# Altium schematic symbol library ICs.SchLib: 86 symbols (part 1 of 2)
Pins are listed as number, name and electrical type; pins without a type are passive.

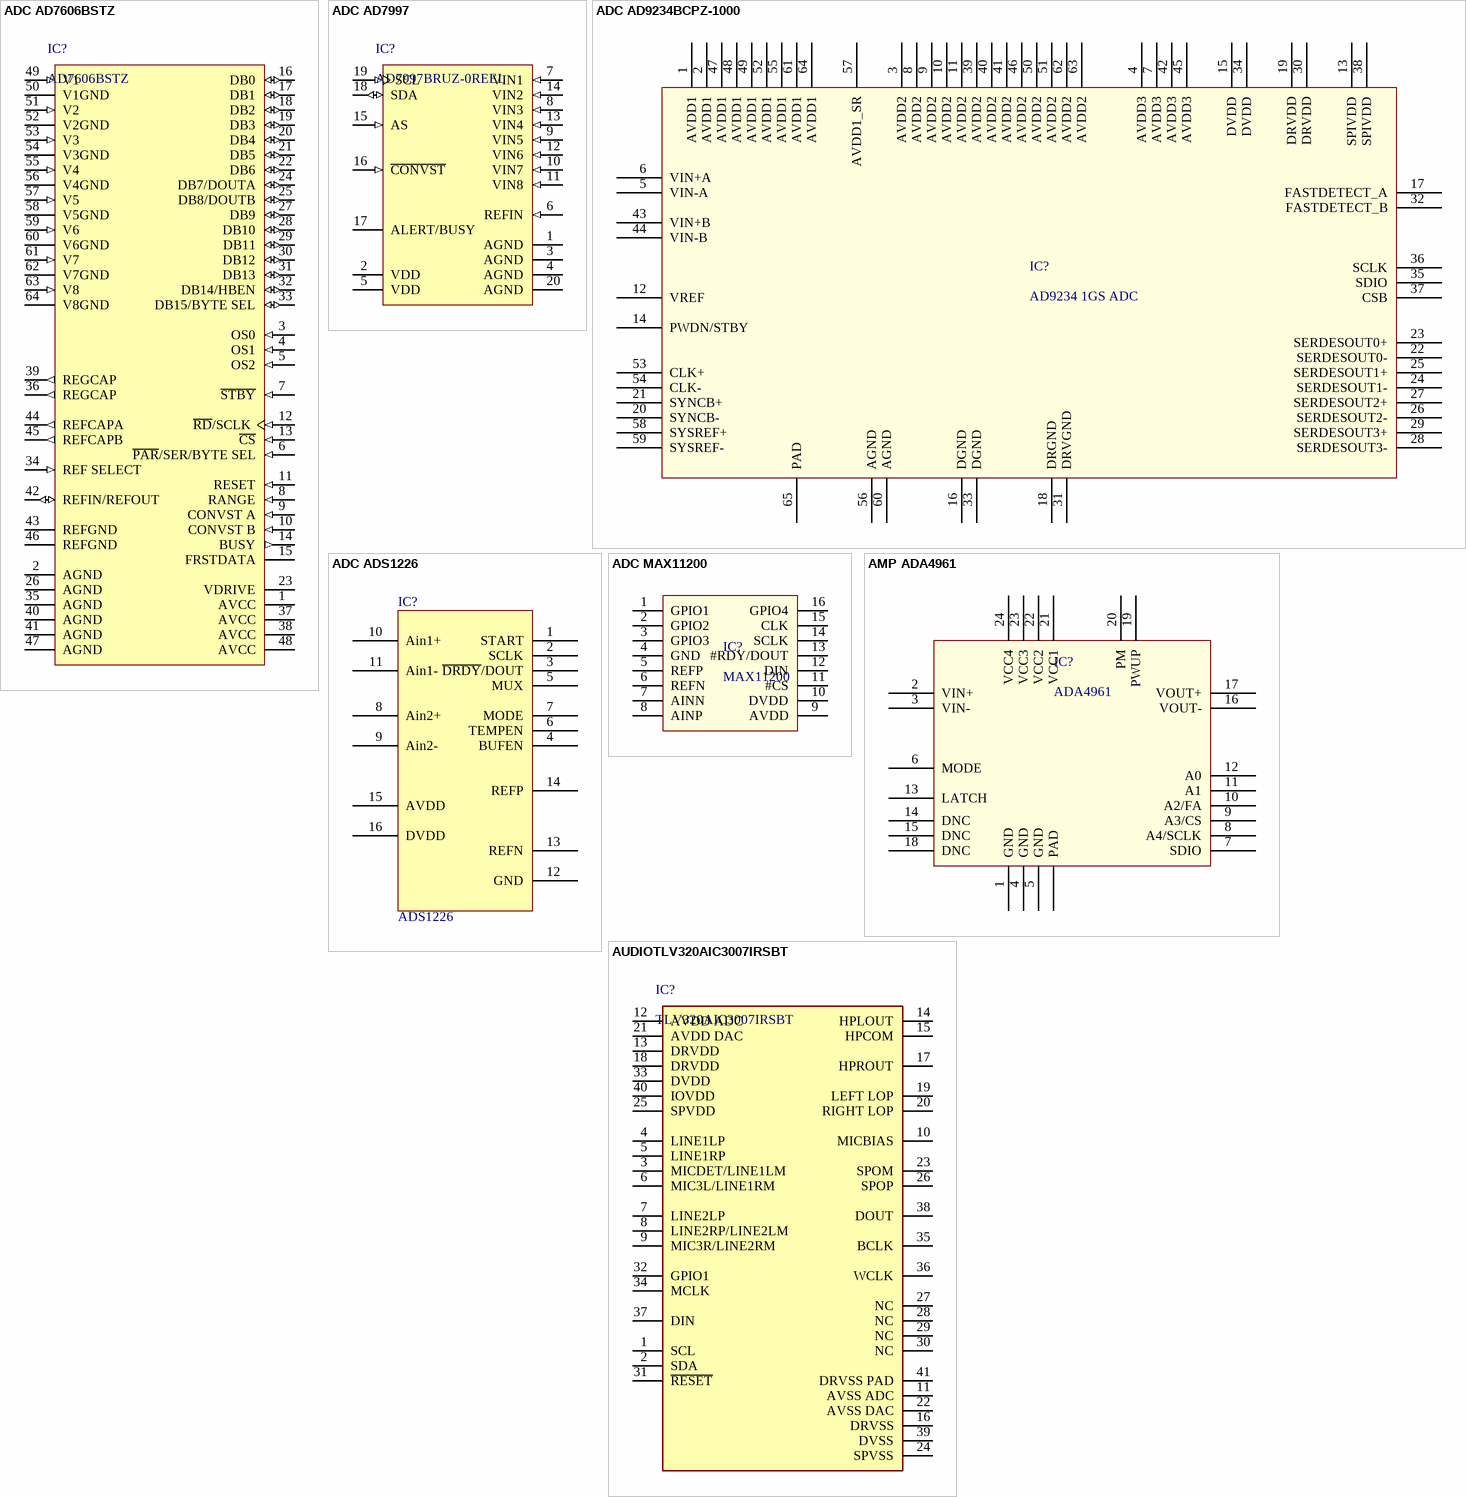
[diagram p0: symbols ADC AD7606BSTZ to AUDIOTLV320AIC3007IRSBT]

## ADC AD7606BSTZ
designator IC?, comment AD7606BSTZ
8 Channel Data Acquisition System with 16-Bit, Bipolar Input, Simultaneous Sampling Analog-to-Digital Converter with Parallel, Serial and SPI Interface, 200KSPS, -40 to +85 degC, ST-64-2, Pb-Free, Tray; Manufacturer: Analog Devices; Value: AD7606; Created by: Nils Minor; Manufacturer Part Number: AD7606BSTZ
footprint ST-64-2_L
pins: 1 AVCC (power) "Analog Supply Voltage, 4.75 V to 5.25 V. This supply voltage is applied to the internal front-end amplifiers and to the ADC core. These supply pins should be decoupled to AGND.", 2 AGND (power) "Analog Ground. These pins are the ground reference points for all analog circuitry on the AD7606. All analog input signals and external reference signals should be referred to these pins. All six of these AGND pins should (See Datasheet)", 3 OS0 (in) "Oversampling Mode Pins. Logic inputs. These inputs are used to select the oversampling ratio. OS 2 is the MSB control bit, and OS 0 is the LSB control bit. See the Digital Filter section for more details about the (See Datasheet)", 4 OS1 (in) "Oversampling Mode Pins. Logic inputs. These inputs are used to select the oversampling ratio. OS 2 is the MSB control bit, and OS 0 is the LSB control bit. See the Digital Filter section for more details about the (See Datasheet)", 5 OS2 (in) "Oversampling Mode Pins. Logic inputs. These inputs are used to select the oversampling ratio. OS 2 is the MSB control bit, and OS 0 is the LSB control bit. See the Digital Filter section for more details about the (See Datasheet)", 6 ~{PAR}/SER/BYTE SEL (in) "Parallel/Serial/Byte Interface Selection Input. Logic input. If this pin is tied to a logic low, the parallel interface is selected. If this pin is tied to a logic high,the serial interface is selected. Parallel byte (See Datasheet)", 7 ~{STBY} (in) "Standby Mode Input. This pin is used to place the AD7606/AD7606-6/AD7606-4 into one of two power-down modes: standby mode or shutdown mode. The power-down mode entered depends on the state of the RANGE pin, as shown in Table (See Datasheet)", 8 RANGE (in) "Analog Input Range Selection. Logic input. The polarity on this pin deter-mines the input range of the analog input channels. If this pin is tied to a logic high, the analog input range is +/-10 V for all channels. If this (See Datasheet)", 9 CONVST A (in) "Conversion Start Input A. Logic inputs. These logic inputs are used to initiate conversions on the analog input channels. For simultaneous sampling of all input channels, CONVST A and CONVST B can be shorted together, and a (See Datasheet)", 10 CONVST B (in) "Conversion Start Input B. Logic inputs. These logic inputs are used to initiate conversions on the analog input channels. For simultaneous sampling of all input channels, CONVST A and CONVST B can be shorted together, and a (See Datasheet)", 11 RESET (in) "Reset Input. When set to logic high, the rising edge of RESET resets the AD7606/AD7606-6/AD7606-4. The part should receive a RESET pulse after power-up. The RESET high pulse should typically be 50 ns wide. If a RESET pulse (See Datasheet)", 12 ~{RD}/SCLK (in) "Parallel Data Read Control Input When the Parallel Interface Is Selected (R\D\)/ Serial Clock Input When the Serial Interface Is Selected (SCLK). When both C\S\ and R\D\ are logic low in parallel mode, the output bus is (See Datasheet)", 13 ~{CS} (in) "Chip Select. This active low logic input frames the data transfer. When both C\S\ and R\D\ are logic low in parallel mode, the DB[15:0] output bus is enabled and the conversion result is output on the parallel data bus lines.(See Datasheet)", 14 BUSY (out) "Busy Output. This pin transitions to a logic high after both CONVST A and CONVST B rising edges and indicates that the conversion process has started. The BUSY output remains high until the conversion process for all (See Datasheet)", 15 FRSTDATA (hiz) "Digital Output. The FRSTDATA output signal indicates when the first channel, V1, is being read back on the parallel, byte, or serial interface. When the C\S\ input is high, the FRSTDATA output pin is in three-state. The (See Datasheet)", 16 DB0 (io) "Parallel Output Data Bit, DB6 to DB0. When P\A\R\/SER/BYTE SEL = 0, this pin acts as three-state parallel digital input/output pin. When C\S\ and R\D\ are low, these pins are used to output DB6 to DB0 of the conversion (See Datasheet)", 17 DB1 (io) "Parallel Output Data Bit, DB6 to DB0. When P\A\R\/SER/BYTE SEL = 0, this pin acts as three-state parallel digital input/output pin. When C\S\ and R\D\ are low, these pins are used to output DB6 to DB0 of the conversion (See Datasheet)", 18 DB2 (io) "Parallel Output Data Bit, DB6 to DB0. When P\A\R\/SER/BYTE SEL = 0, this pin acts as three-state parallel digital input/output pin. When C\S\ and R\D\ are low, these pins are used to output DB6 to DB0 of the conversion (See Datasheet)", 19 DB3 (io) "Parallel Output Data Bit, DB6 to DB0. When P\A\R\/SER/BYTE SEL = 0, this pin acts as three-state parallel digital input/output pin. When C\S\ and R\D\ are low, these pins are used to output DB6 to DB0 of the conversion (See Datasheet)", 20 DB4 (io) "Parallel Output Data Bit, DB6 to DB0. When P\A\R\/SER/BYTE SEL = 0, this pin acts as three-state parallel digital input/output pin. When C\S\ and R\D\ are low, these pins are used to output DB6 to DB0 of the conversion (See Datasheet)", 21 DB5 (io) "Parallel Output Data Bit, DB6 to DB0. When P\A\R\/SER/BYTE SEL = 0, this pin acts as three-state parallel digital input/output pin. When C\S\ and R\D\ are low, these pins are used to output DB6 to DB0 of the conversion (See Datasheet)", 22 DB6 (io) "Parallel Output Data Bit, DB6 to DB0. When P\A\R\/SER/BYTE SEL = 0, this pin acts as three-state parallel digital input/output pin. When C\S\ and R\D\ are low, these pins are used to output DB6 to DB0 of the conversion (See Datasheet)", 23 VDRIVE (power) "Logic Power Supply Input. The voltage (2.3 V to 5.25 V) supplied at this pin determines the operating voltage of the interface. This pin is nominally at the same supply as the supply of the host interface (that is, DSP and (See Datasheet)", 24 DB7/DOUTA (io) "Parallel Output Data Bit 7 (DB7)/Serial Interface Data Output Pin (DoutA). When P\A\R\/SER/BYTE SEL = 0, this pin acts as a three-state parallel digital input/output pin. When C\S\ and R\D\ are low, this pin is used to (See Datasheet)", 25 DB8/DOUTB (io) "Parallel Output Data Bit 8 (DB8)/Serial Interface Data Output Pin (DoutB).  When P\A\R\/SER/BYTE SEL = 0, this pin acts as a three-state parallel digital input/output pin. When C\S\ and R\D\ are low, this pin is used to (See Datasheet)", 26 AGND (power) "Analog Ground. These pins are the ground reference points for all analog circuitry on the AD7606. All analog input signals and external reference signals should be referred to these pins. All six of these AGND pins should (See Datasheet)", 27 DB9 (io) "Parallel Output Data Bit, DB13 to DB9. When P\A\R\/SER/BYTE SEL = 0, this pin acts as three-state parallel digital input/output pin. When C\S\ and R\D\ are low, these pins are used to output DB13 to DB9 of the conversion (See Datasheet)", 28 DB10 (io) "Parallel Output Data Bit, DB13 to DB9. When P\A\R\/SER/BYTE SEL = 0, this pin acts as three-state parallel digital input/output pin. When C\S\ and R\D\ are low, these pins are used to output DB13 to DB9 of the conversion (See Datasheet)", 29 DB11 (io) "Parallel Output Data Bit, DB13 to DB9. When P\A\R\/SER/BYTE SEL = 0, this pin acts as three-state parallel digital input/output pin. When C\S\ and R\D\ are low, these pins are used to output DB13 to DB9 of the conversion (See Datasheet)", 30 DB12 (io) "Parallel Output Data Bit, DB13 to DB9. When P\A\R\/SER/BYTE SEL = 0, this pin acts as three-state parallel digital input/output pin. When C\S\ and R\D\ are low, these pins are used to output DB13 to DB9 of the conversion (See Datasheet)", 31 DB13 (io) "Parallel Output Data Bit, DB13 to DB9. When P\A\R\/SER/BYTE SEL = 0, this pin acts as three-state parallel digital input/output pin. When C\S\ and R\D\ are low, these pins are used to output DB13 to DB9 of the conversion (See Datasheet)", 32 DB14/HBEN (io) "Parallel Output Data Bit 14 (DB14)/High Byte Enable (HBEN). When P\A\R\/ SER/BYTE SEL = 0, this pin acts as a three-state parallel digital output pin. When C\S\ and R\D\ are low, this pin is used to output DB14 of the (See Datasheet)", 33 DB15/BYTE SEL (io) "Parallel Output Data Bit 15 (DB15)/Parallel Byte Mode Select (BYTE SEL).  When P\A\R\/SER/BYTE SEL = 0, this pin acts as a three-state parallel digital output pin. When C\S\ and R\D\ are low, this pin is used to output DB15 (See Datasheet)", 34 REF SELECT (in) "Internal/External Reference Selection Input. Logic input. If this pin is set to logic high, the internal reference is selected and enabled. If this pin is set to logic low, the internal reference is disabled and an external (See Datasheet)", 35 AGND (power) "Analog Ground. These pins are the ground reference points for all analog circuitry on the AD7606. All analog input signals and external reference signals should be referred to these pins. All six of these AGND pins should (See Datasheet)", 36 REGCAP (out) "Decoupling Capacitor Pin for Voltage Output from Internal Regulator.  These output pins should be decoupled separately to AGND using a 1 uF capacitor. The voltage on these pins is in the range of 2.5 V to 2.7 V.", 37 AVCC (power) "Analog Supply Voltage, 4.75 V to 5.25 V. This supply voltage is applied to the internal front-end amplifiers and to the ADC core. These supply pins should be decoupled to AGND.", 38 AVCC (power) "Analog Supply Voltage, 4.75 V to 5.25 V. This supply voltage is applied to the internal front-end amplifiers and to the ADC core. These supply pins should be decoupled to AGND.", 39 REGCAP (out) "Decoupling Capacitor Pin for Voltage Output from Internal Regulator.  These output pins should be decoupled separately to AGND using a 1 uF capacitor. The voltage on these pins is in the range of 2.5 V to 2.7 V.", 40 AGND (power) "Analog Ground. These pins are the ground reference points for all analog circuitry on the AD7606. All analog input signals and external reference signals should be referred to these pins. All six of these AGND pins should (See Datasheet)", 41 AGND (power) "Analog Ground. These pins are the ground reference points for all analog circuitry on the AD7606. All analog input signals and external reference signals should be referred to these pins. All six of these AGND pins should (See Datasheet)", 42 REFIN/REFOUT (io) "Reference Input (REFIN)/Reference Output (REFOUT). The on-chip reference of 2.5 V is available on this pin for external use if the REF SELECT pin is set to logic high. Alternatively, the internal reference can be disabled by (See Datasheet)", 43 REFGND (power) "Reference Ground Pins. These pins should be connected to AGND.", 44 REFCAPA (out) "Reference Buffer Output Force/Sense Pins. These pins must be connected together and decoupled to AGND using a low ESR, 10 uF ceramic capacitor. The voltage on these pins is typically 4.5 V.", 45 REFCAPB (out) "Reference Buffer Output Force/Sense Pins. These pins must be connected together and decoupled to AGND using a low ESR, 10 uF ceramic capacitor. The voltage on these pins is typically 4.5 V.", 46 REFGND (power) "Reference Ground Pins. These pins should be connected to AGND.", 47 AGND (power) "Analog Ground. These pins are the ground reference points for all analog circuitry on the AD7606. All analog input signals and external reference signals should be referred to these pins. All six of these AGND pins should (See Datasheet)", 48 AVCC (power) "Analog Supply Voltage, 4.75 V to 5.25 V. This supply voltage is applied to the internal front-end amplifiers and to the ADC core. These supply pins should be decoupled to AGND.", 49 V1 (in) "Analog Input. This pin is a single-ended analog input. The analog input range of this channel is determined by the RANGE pin.", 50 V1GND (power) "Analog Input Ground Pins. These pins correspond to Analog Input Pin V1 and Analog Input Pin V2. All analog input AGND pins should connect to the AGND plane of a system.", 51 V2 (in) "Analog Input. This pin is a single-ended analog input. The analog input range of this channel is determined by the RANGE pin.", 52 V2GND (power) "Analog Input Ground Pins. These pins correspond to Analog Input Pin V1 and Analog Input Pin V2. All analog input AGND pins should connect to the AGND plane of a system.", 53 V3 (in) "Analog Input 3. For the AD7606-4, this is an AGND pin.", 54 V3GND (power) "Analog Input Ground Pin. For the AD7606-4, this is an AGND pin.", 55 V4 (in) "Analog Input 4. For the AD7606-6 and the AD7606-4, this is an AGND pin.", 56 V4GND (power) "Analog Input Ground Pin. For the AD7606-6 and AD7606-4, this is an AGND pin.", 57 V5 (in) "Analog Inputs. These pins are single-ended analog inputs. The analog input range of these channels is determined by the RANGE pin.", 58 V5GND (power) "Analog Input Ground Pins. All analog input AGND pins should connect to the AGND plane of a system.", 59 V6 (in) "Analog Inputs. These pins are single-ended analog inputs.", 60 V6GND (power) "Analog Input Ground Pins. All analog input AGND pins should connect to the AGND plane of a system.", 61 V7 (in) "Analog Input Pins. For the AD7606-4, this is an AGND pin.", 62 V7GND (power) "Analog Input Ground Pins. For the AD7606-4, this is an AGND pin.", 63 V8 (in) "Analog Input Pin. For the AD7606-4 and AD7606-6, this is an AGND pin.", 64 V8GND (power) "Analog Input Ground Pin. For the AD7606-4 and AD7606-6, this is an AGND pin."

## ADC AD7997
designator IC?, comment AD7997BRUZ-0REEL
Octal 10-Bit Analog-to-Digital Converter with I2C / Serial 2-Wire, Serial Interface, 79KSPS, -40 to +85 degC, RU-20, Pb-Free, Reel; Manufacturer: Analog Devices; Created by: Nils Minor; Manufacturer Part Number: AD7997BRUZ-0REEL
footprint RU-20_M
pins: 1 AGND (power) "Analog Ground. Ground reference point for all circuitry on the AD7997/AD7998. All analog input signals should be referred to this AGND voltage.", 2 VDD (power) "Power Supply Input. The VDD range for the AD7997/AD7998 is from 2.7 V to 5.5 V.", 3 AGND (power) "Analog Ground. Ground reference point for all circuitry on the AD7997/AD7998. All analog input signals should be referred to this AGND voltage.", 4 AGND (power) "Analog Ground. Ground reference point for all circuitry on the AD7997/AD7998. All analog input signals should be referred to this AGND voltage.", 5 VDD (power) "Power Supply Input. The VDD range for the AD7997/AD7998 is from 2.7 V to 5.5 V.", 6 REFIN (in) "Voltage Reference Input. The external reference for the AD7997/AD7998 should be applied to this input pin. The voltage range for the external reference is 1.2 V to VDD. A 0.1 uF and 1 uF capacitors should be placed between (See Datasheet)", 7 VIN1 (in) "Analog Input 1. Single-ended analog input channel. The input range is 0 V to REFIN.", 8 VIN3 (in) "Analog Input 3. Single-ended analog input channel. The input range is 0 V to REFIN.", 9 VIN5 (in) "Analog Input 5. Single-ended analog input channel. The input range is 0 V to REFIN.", 10 VIN7 (in) "Analog Input 7. Single-ended analog input channel. The input range is 0 V to REFIN.", 11 VIN8 (in) "Analog Input 8. Single-ended analog input channel. The input range is 0 V to REFIN.", 12 VIN6 (in) "Analog Input 6. Single-ended analog input channel. The input range is 0 V to REFIN.", 13 VIN4 (in) "Analog Input 4. Single-ended analog input channel. The input range is 0 V to REFIN.", 14 VIN2 (in) "Analog Input 2. Single-ended analog input channel. The input range is 0 V to REFIN.", 15 AS (in) "Logic Input. Address select input that selects one of three I2C addresses for the AD7997/AD7998, as shown in Table 6. The device address depends on the voltage applied to this pin.", 16 ~{CONVST} (in) "Logic Input Signal. Convert start signal. This is an edge-triggered logic input. The rising edge of this signal powers up the part. The power-up time for the part is 1 us. The falling edge of C\O\N\V\S\T\ places the (See Datasheet)", 17 ALERT/BUSY (oc) "Digital Output. Selectable as an ALERT or BUSY output function. When configured as an ALERT, this pin acts as an out-of-range indicator and, if enabled, becomes active when the conversion result violates the DATAHIGH or (See Datasheet)", 18 SDA (io) "Digital I/O. Serial bus bidirectional data. Open-drain output. External pull-up resistor required.", 19 SCL (in) "Digital Input. Serial bus clock. Open-drain input. External pull-up resistor required.", 20 AGND (power) "Analog Ground. Ground reference point for all circuitry on the AD7997/AD7998. All analog input signals should be referred to this AGND voltage."

## ADC AD9234BCPZ-1000
designator IC?, comment AD9234 1GS ADC
ADC 12-Bit, 1 GSPS/500 MSPS JESD204B, Dual Analog-to-Digital Converter; Manufacturer: Analog Devices; Manufacturer Part Number: AD9234BCPZ-1000; Created by: Nils Minor; Value: AD9234
footprint QFN64_9X9_PAD7_1X7
pins: 1 AVDD1, 2 AVDD1, 3 AVDD2, 4 AVDD3, 5 VIN-A, 6 VIN+A, 7 AVDD3, 8 AVDD2, 9 AVDD2, 10 AVDD2, 11 AVDD2, 12 VREF, 13 SPIVDD, 14 PWDN/STBY, 15 DVDD, 16 DGND, 17 FASTDETECT_A, 18 DRGND, 19 DRVDD, 20 SYNCB-, 21 SYNCB+, 22 SERDESOUT0-, 23 SERDESOUT0+, 24 SERDESOUT1-, 25 SERDESOUT1+, 26 SERDESOUT2-, 27 SERDESOUT2+, 28 SERDESOUT3-, 29 SERDESOUT3+, 30 DRVDD, 31 DRVGND, 32 FASTDETECT_B, 33 DGND, 34 DVDD, 35 SDIO, 36 SCLK, 37 CSB, 38 SPIVDD, 39 AVDD2, 40 AVDD2, 41 AVDD2, 42 AVDD3, 43 VIN+B, 44 VIN-B, 45 AVDD3, 46 AVDD2, 47 AVDD1, 48 AVDD1, 49 AVDD1, 50 AVDD2, 51 AVDD2, 52 AVDD1, 53 CLK+, 54 CLK-, 55 AVDD1, 56 AGND, 57 AVDD1_SR, 58 SYSREF+, 59 SYSREF-, 60 AGND, 61 AVDD1, 62 AVDD2, 63 AVDD2, 64 AVDD1, 65 PAD

## ADC ADS1226
designator IC?, comment ADS1226
ADC ADS1226, 2 Kanal 24-Bit ADC, QFN-16 (4x4); Manufacturer: Texas Instruments (TI); Manufacturer Part Number: ADS1226IRGV; Value: ADS 1226 IRGV; Created by: Nils Minor
footprint QFN-4x4-16
pins: 1 START, 2 SCLK, 3 ~{DRDY}/DOUT, 4 BUFEN, 5 MUX, 6 TEMPEN, 7 MODE, 8 Ain2+, 9 Ain2-, 10 Ain1+, 11 Ain1-, 12 GND, 13 REFN, 14 REFP, 15 AVDD, 16 DVDD

## ADC MAX11200
designator IC?, comment MAX11200
ADC 24-Bit Delta-Sigma; Manufacturer: Maxim; Manufacturer Part Number: MAX11200EEE+; Value: MAX 11200 EEE +; Created by: Nils Minor
footprint QSOP-16 (MAX11200)
pins: 1 GPIO1, 2 GPIO2, 3 GPIO3, 4 GND, 5 REFP, 6 REFN, 7 AINN, 8 AINP, 9 AVDD, 10 DVDD, 11 #CS, 12 DIN, 13 #RDY/DOUT, 14 SCLK, 15 CLK, 16 GPIO4

## AMP ADA4961
designator IC?, comment ADA4961
AMP digital gain  amplifier (DGA), optimized for driving heavy loads out to 2.0 GHz and beyond.; Manufacturer: Analog Devices; Manufacturer Part Number: ADA4961ACPZN-R7; Created by: Nils Minor; Value: ADA4961
footprint QFN24_4X4_PAD2_5X2_5
pins: 1 GND, 2 VIN+, 3 VIN-, 4 GND, 5 GND, 6 MODE, 7 SDIO, 8 A4/SCLK, 9 A3/CS, 10 A2/FA, 11 A1, 12 A0, 13 LATCH, 14 DNC, 15 DNC, 16 VOUT-, 17 VOUT+, 18 DNC, 19 PWUP, 20 PM, 21 VCC1, 22 VCC2, 23 VCC3, 24 VCC4, PAD

## AUDIOTLV320AIC3007IRSBT
designator IC?, comment TLV320AIC3007IRSBT
Low Power Stereo CODEC with Integrated Class-D Amplifier 40-WQFN -40 to 85; Manufacturer: Texas Instruments; Created by: Nils Minor; Manufacturer Part Number: TLV320AIC3007IRSBT
footprint S-PWQFN-N40_0
pins: 1 SCL, 2 SDA, 3 MICDET/LINE1LM, 4 LINE1LP, 5 LINE1RP, 6 MIC3L/LINE1RM, 7 LINE2LP, 8 LINE2RP/LINE2LM, 9 MIC3R/LINE2RM, 10 MICBIAS, 11 AVSS ADC, 12 AVDD ADC, 13 DRVDD, 14 HPLOUT, 15 HPCOM, 16 DRVSS, 17 HPROUT, 18 DRVDD, 19 LEFT LOP, 20 RIGHT LOP, 21 AVDD DAC, 22 AVSS DAC, 23 SPOM, 24 SPVSS, 25 SPVDD, 26 SPOP, 27 NC, 28 NC, 29 NC, 30 NC, 31 ~{RESET}, 32 GPIO1, 33 DVDD, 34 MCLK, 35 BCLK, 36 WCLK, 37 DIN, 38 DOUT, 39 DVSS, 40 IOVDD, 41 DRVSS PAD

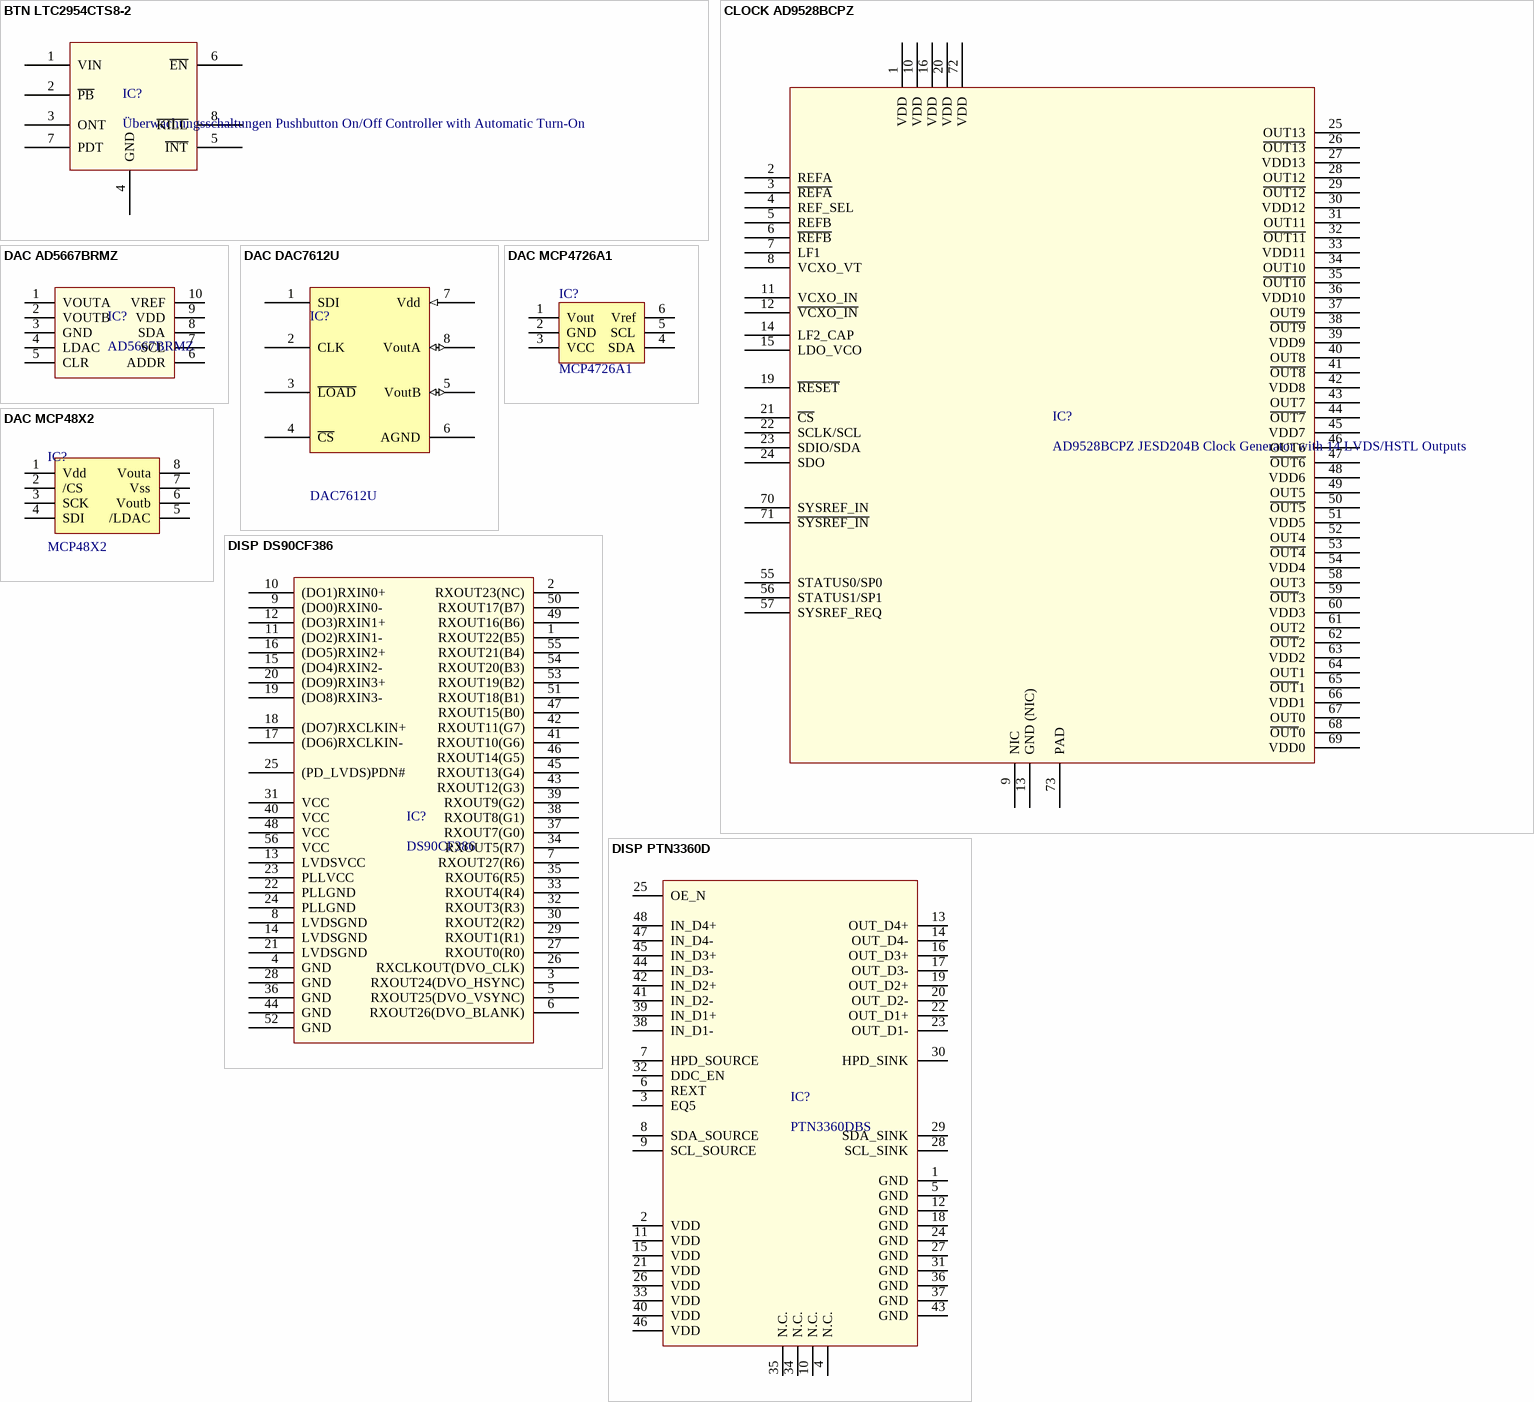
[diagram p1: symbols BTN LTC2954CTS8-2 to DISP PTN3360D]

## BTN LTC2954CTS8-2
designator IC?, comment Überwachungsschaltungen Pushbutton On/Off Controller with Automatic Turn-On
Überwachungsschaltungen Push Button On/Off Controller with U Interrupt for Menu Driven Applications; Manufacturer: Analog Devices; Manufacturer Part Number: LTC2954CTS8-2#TRMPBF; Created by: Nils Minor
footprint TSOT-23
pins: 1 VIN, 2 ~{PB}, 3 ONT, 4 GND, 5 ~{INT}, 6 ~{EN}, 7 PDT, 8 ~{KILL}

## CLOCK AD9528BCPZ
designator IC?, comment AD9528BCPZ JESD204B Clock Generator with 14 LVDS/HSTL Outputs
JESD204B Clock Generator with 14 LVDS/HSTL Outputs; Manufacturer: Analog Devices; Value: AD9528; Manufacturer Part Number: AD9528BCPZ; Created by: Nils Minor
footprint QFN72_10X10_PAD6X6
pins: 1 VDD, 2 REFA, 3 ~{REFA}, 4 REF_SEL, 5 REFB, 6 ~{REFB}, 7 LF1, 8 VCXO_VT, 9 NIC, 10 VDD, 11 VCXO_IN, 12 ~{VCXO_IN}, 13 GND (NIC), 14 LF2_CAP, 15 LDO_VCO, 16 VDD, 19 ~{RESET}, 20 VDD, 21 ~{CS}, 22 SCLK/SCL, 23 SDIO/SDA, 24 SDO, 25 OUT13, 26 ~{OUT13}, 27 VDD13, 28 OUT12, 29 ~{OUT12}, 30 VDD12, 31 OUT11, 32 ~{OUT11}, 33 VDD11, 34 OUT10, 35 ~{OUT10}, 36 VDD10, 37 OUT9, 38 ~{OUT9}, 39 VDD9, 40 OUT8, 41 ~{OUT8}, 42 VDD8, 43 OUT7, 44 ~{OUT7}, 45 VDD7, 46 OUT6, 47 ~{OUT6}, 48 VDD6, 49 OUT5, 50 ~{OUT5}, 51 VDD5, 52 OUT4, 53 ~{OUT4}, 54 VDD4, 55 STATUS0/SP0, 56 STATUS1/SP1, 57 SYSREF_REQ, 58 OUT3, 59 ~{OUT}3, 60 VDD3, 61 OUT2, 62 ~{OUT}2, 63 VDD2, 64 OUT1, 65 ~{OUT}1, 66 VDD1, 67 OUT0, 68 ~{OUT}0, 69 VDD0, 70 SYSREF_IN, 71 ~{SYSREF_IN}, 72 VDD, 73 PAD

## DAC AD5667BRMZ
designator IC?, comment AD5667BRMZ
Dual DAC 16BIT MSOP10; Manufacturer: Analog Devices; Manufacturer Part Number: AD5667BRMZ; Created by: Nils Minor; Value: AD 5667 BRMZ
footprint MSOP-10
pins: 1 VOUTA, 2 VOUTB, 3 GND, 4 LDAC, 5 CLR, 6 ADDR, 7 SCL, 8 SDA, 9 VDD, 10 VREF

## DAC DAC7612U
designator IC?, comment DAC7612U
Dual DAC 12 Bit SO-8; Manufacturer: Texas Instruments (TI); Manufacturer Part Number: DAC7612U/2K5; Created by: Nils Minor; Value: DAC 7612 U
footprint SO8
pins: 1 SDI, 2 CLK, 3 ~{LOAD}, 4 ~{CS}, 5 VoutB (io), 6 AGND (power), 7 Vdd (in), 8 VoutA (io)

## DAC MCP48X2
designator IC?, comment MCP48X2
Dual DAC, Microchip; Manufacturer: Microchip Technology; Manufacturer Part Number: MCP4812-E/MS; Value: MCP 4812-E/MS; Created by: Nils Minor
footprint SOP65P490X265-8N (SOP, 8-Leads, Body 3,0x3,0mm (max), Pitch 0,65mm, IPC Medium Density)
pins: 1 Vdd, 2 /CS, 3 SCK, 4 SDI, 5 /LDAC, 6 Voutb, 7 Vss, 8 Vouta

## DAC MCP4726A1
designator IC?, comment MCP4726A1
DAC 12 Bit SOT-236; Manufacturer: Microchip Technology; Manufacturer Part Number: MCP4726A1-E/CH; Value: MCP 4726 A1-E/CH; Created by: Nils Minor
footprint SOT236
pins: 1 Vout, 2 GND, 3 VCC, 4 SDA, 5 SCL, 6 Vref

## DISP DS90CF386
designator IC?, comment DS90CF386
LVDS zu 24 BIT RGB TTL DS90CF386 TSOP; Manufacturer: Texas Instruments (TI); Manufacturer Part Number: DS90CF386MTD/NOPB; Value: DS 90 CF 386 MTD/NOPB; Created by: Nils Minor
footprint TSSOP50P810-56N (TSSOP, 56-Leads, Body 14x6.1mm, Pitch 0.5mm, IPC Medium Density)
pins: 1 RXOUT22(B5), 2 RXOUT23(NC), 3 RXOUT24(DVO_HSYNC), 4 GND, 5 RXOUT25(DVO_VSYNC), 6 RXOUT26(DVO_BLANK), 7 RXOUT27(R6), 8 LVDSGND, 9 (DO0)RXIN0-, 10 (DO1)RXIN0+, 11 (DO2)RXIN1-, 12 (DO3)RXIN1+, 13 LVDSVCC, 14 LVDSGND, 15 (DO4)RXIN2-, 16 (DO5)RXIN2+, 17 (DO6)RXCLKIN-, 18 (DO7)RXCLKIN+, 19 (DO8)RXIN3-, 20 (DO9)RXIN3+, 21 LVDSGND, 22 PLLGND, 23 PLLVCC, 24 PLLGND, 25 (PD_LVDS)PDN#, 26 RXCLKOUT(DVO_CLK), 27 RXOUT0(R0), 28 GND, 29 RXOUT1(R1), 30 RXOUT2(R2), 31 VCC, 32 RXOUT3(R3), 33 RXOUT4(R4), 34 RXOUT5(R7), 35 RXOUT6(R5), 36 GND, 37 RXOUT7(G0), 38 RXOUT8(G1), 39 RXOUT9(G2), 40 VCC, 41 RXOUT10(G6), 42 RXOUT11(G7), 43 RXOUT12(G3), 44 GND, 45 RXOUT13(G4), 46 RXOUT14(G5), 47 RXOUT15(B0), 48 VCC, 49 RXOUT16(B6), 50 RXOUT17(B7), 51 RXOUT18(B1), 52 GND, 53 RXOUT19(B2), 54 RXOUT20(B3), 55 RXOUT21(B4), 56 VCC

## DISP PTN3360D
designator IC?, comment PTN3360DBS
HDMI/DVI level shifter with active DDC   buffer, supporting 3 Gbit/s operation; Manufacturer: NXP Semiconductors; Manufacturer Part Number: PTN3360DBS,518; Created by: Nils Minor; Value: PTN 3360 DBS
footprint HVQFN48 (for PTN3360D)
pins: 1 GND, 2 VDD, 3 EQ5, 4 N.C., 5 GND, 6 REXT, 7 HPD_SOURCE, 8 SDA_SOURCE, 9 SCL_SOURCE, 10 N.C., 11 VDD, 12 GND, 13 OUT_D4+, 14 OUT_D4-, 15 VDD, 16 OUT_D3+, 17 OUT_D3-, 18 GND, 19 OUT_D2+, 20 OUT_D2-, 21 VDD, 22 OUT_D1+, 23 OUT_D1-, 24 GND, 25 OE_N, 26 VDD, 27 GND, 28 SCL_SINK, 29 SDA_SINK, 30 HPD_SINK, 31 GND, 32 DDC_EN, 33 VDD, 34 N.C., 35 N.C., 36 GND, 37 GND, 38 IN_D1-, 39 IN_D1+, 40 VDD, 41 IN_D2-, 42 IN_D2+, 43 GND, 44 IN_D3-, 45 IN_D3+, 46 VDD, 47 IN_D4-, 48 IN_D4+

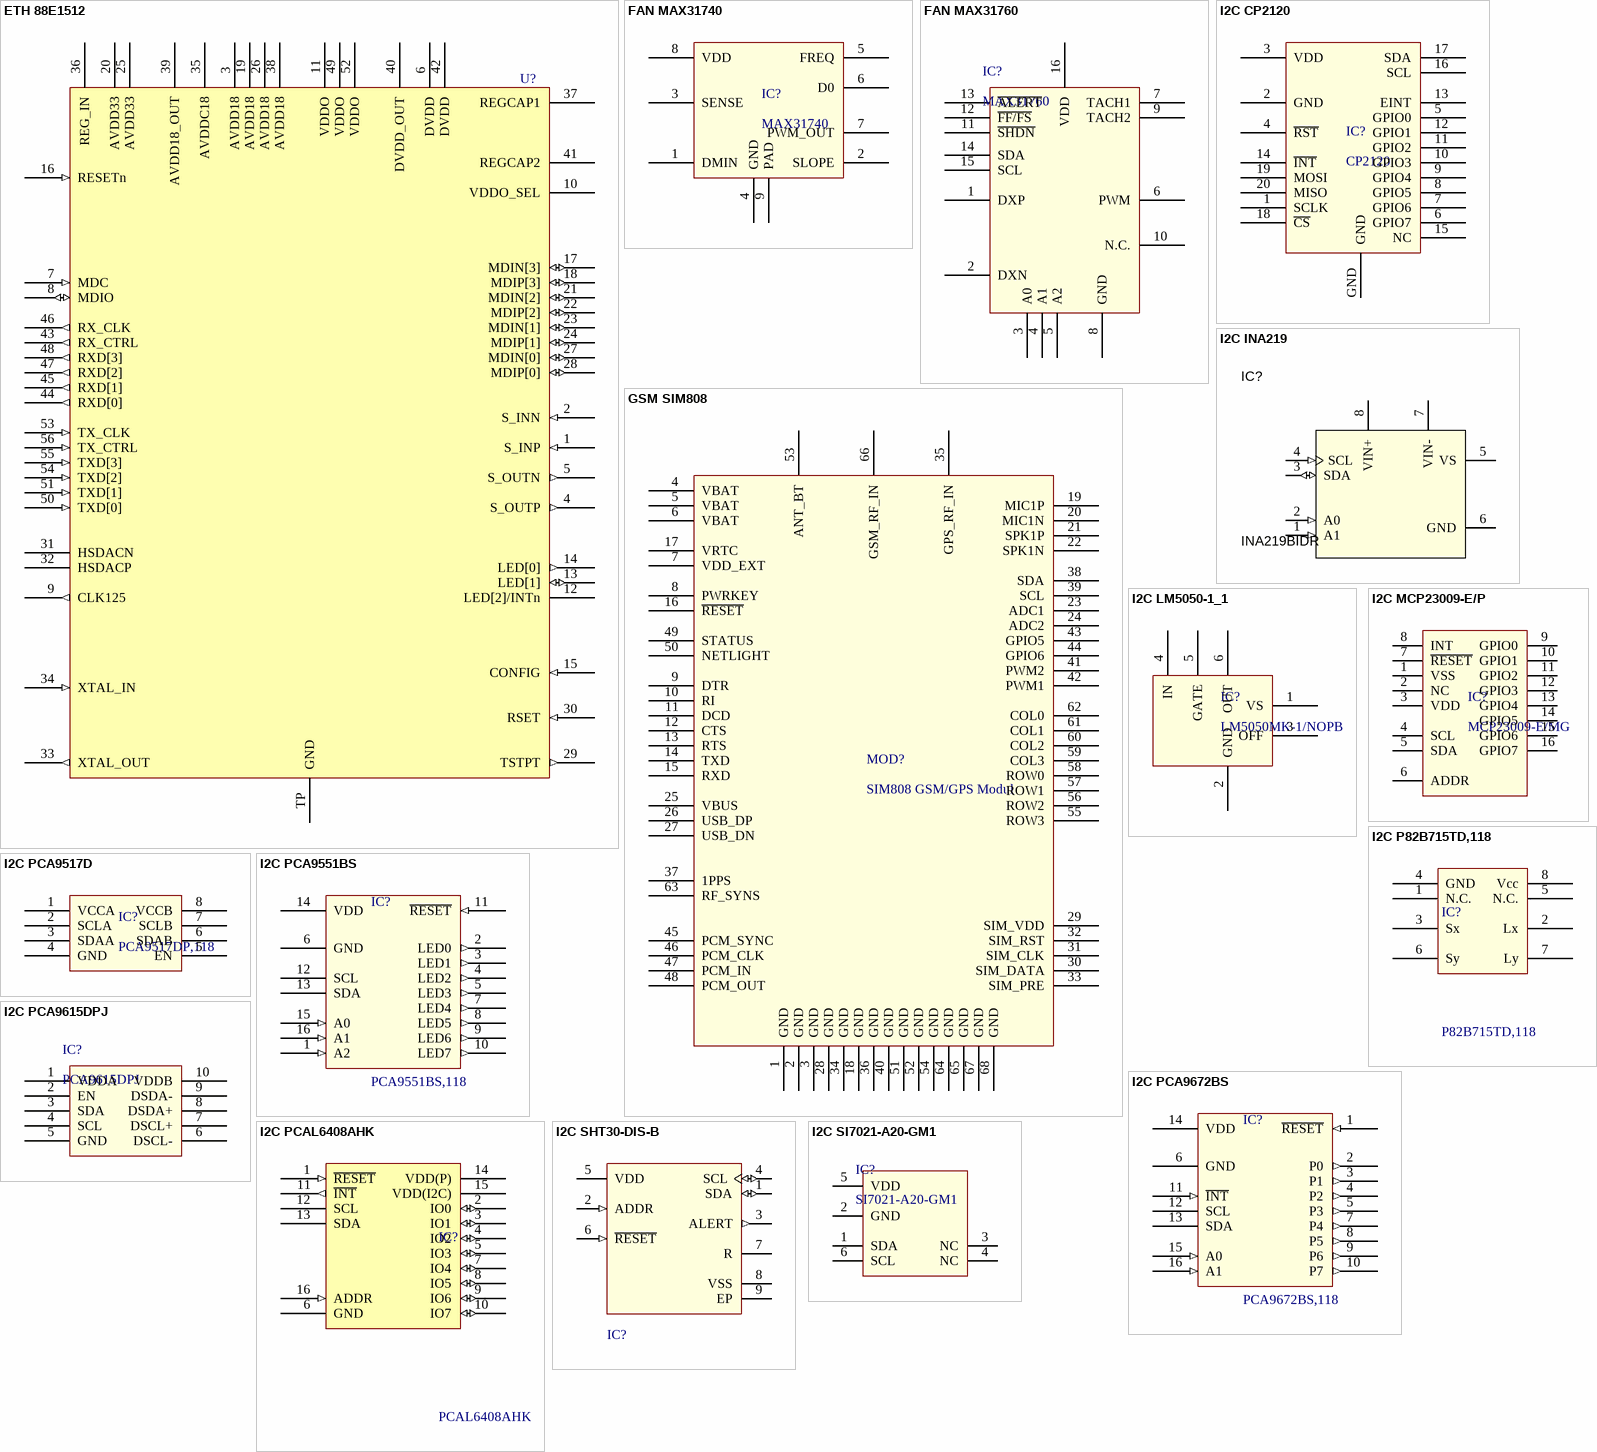
[diagram p2: symbols ETH 88E1512 to I2C SI7021-A20-GM1]

## ETH 88E1512
designator U?, comment 88E1512  (value not drawn)
SINGLE-PORT GIGABIT ETHERNET PHY, RGMII, SGMII; Manufacturer: Marvell Technology Group Ltd.; Manufacturer Part Number: 88E1512-A0-NNP2I000; Created by: Nils Minor
footprint QFN56P800X800X100TP440X440 (QFN, 56-Leads, Body 8.0x8.0mm (max), Pitch 0.50mm, IPC High Density)
pins: 1 S_INP (in), 2 S_INN (in), 3 AVDD18 (power), 4 S_OUTP (out), 5 S_OUTN (out), 6 DVDD (power), 7 MDC (in), 8 MDIO (io), 9 CLK125 (out), 10 VDDO_SEL (power), 11 VDDO (power), 12 LED[2]/INTn, 13 LED[1] (io), 14 LED[0] (out), 15 CONFIG (in), 16 RESETn (in), 17 MDIN[3] (io), 18 MDIP[3] (io), 19 AVDD18 (power), 20 AVDD33 (power), 21 MDIN[2] (io), 22 MDIP[2] (io), 23 MDIN[1] (io), 24 MDIP[1] (io), 25 AVDD33 (power), 26 AVDD18 (power), 27 MDIN[0] (io), 28 MDIP[0] (io), 29 TSTPT (out), 30 RSET (in), 31 HSDACN, 32 HSDACP, 33 XTAL_OUT (out), 34 XTAL_IN (in), 35 AVDDC18 (power), 36 REG_IN (power), 37 REGCAP1, 38 AVDD18 (power), 39 AVDD18_OUT (power), 40 DVDD_OUT (power), 41 REGCAP2, 42 DVDD (power), 43 RX_CTRL (out), 44 RXD[0] (out), 45 RXD[1] (out), 46 RX_CLK (out), 47 RXD[2] (out), 48 RXD[3] (out), 49 VDDO (power), 50 TXD[0] (in), 51 TXD[1] (in), 52 VDDO (power), 53 TX_CLK (in), 54 TXD[2] (in), 55 TXD[3] (in), 56 TX_CTRL (in), TP GND (power)

## FAN MAX31740
designator IC?, comment MAX31740
FAN Controller; Manufacturer: Maxim; Manufacturer Part Number: MAX31740ATA+; Value: MAX 31740 ATA +; Created by: Nils Minor
footprint TDFN-8
pins: 1 DMIN, 2 SLOPE, 3 SENSE, 4 GND, 5 FREQ, 6 D0, 7 PWM_OUT, 8 VDD, 9 PAD

## FAN MAX31760
designator IC?, comment MAX31760
Motor / Motion / Ignition Controllers & Drivers Fan Speed Controller w/LUT; Manufacturer: Maxim; Manufacturer Part Number: MAX31760; Created by: Nils Minor
footprint QSOP-16 (MAX11200)
pins: 1 DXP, 2 DXN, 3 A0, 4 A1, 5 A2, 6 PWM, 7 TACH1, 8 GND, 9 TACH2, 10 N.C., 11 ~{SHDN}, 12 ~{FF/FS}, 13 ~{ALERT}, 14 SDA, 15 SCL, 16 VDD

## GSM SIM808
designator MOD?, comment SIM808 GSM/GPS Modul
Modul: GPS/GSM; GPRS; 2G; 1800MHz,900MHz; GPIO, USB, serial; SMD; Manufacturer: SIMCOM; Created by: Nils Minor
footprint SIM808
pins: 1 GND, 2 GND, 3 GND, 4 VBAT, 5 VBAT, 6 VBAT, 7 VDD_EXT, 8 PWRKEY, 9 DTR, 10 RI, 11 DCD, 12 CTS, 13 RTS, 14 TXD, 15 RXD, 16 ~{RESET}, 17 VRTC, 18 GND, 19 MIC1P, 20 MIC1N, 21 SPK1P, 22 SPK1N, 23 ADC1, 24 ADC2, 25 VBUS, 26 USB_DP, 27 USB_DN, 28 GND, 29 SIM_VDD, 30 SIM_DATA, 31 SIM_CLK, 32 SIM_RST, 33 SIM_PRE, 34 GND, 35 GPS_RF_IN, 36 GND, 37 1PPS, 38 SDA, 39 SCL, 40 GND, 41 PWM2, 42 PWM1, 43 GPIO5, 44 GPIO6, 45 PCM_SYNC, 46 PCM_CLK, 47 PCM_IN, 48 PCM_OUT, 49 STATUS, 50 NETLIGHT, 51 GND, 52 GND, 53 ANT_BT, 54 GND, 55 ROW3, 56 ROW2, 57 ROW1, 58 ROW0, 59 COL3, 60 COL2, 61 COL1, 62 COL0, 63 RF_SYNS, 64 GND, 65 GND, 66 GSM_RF_IN, 67 GND, 68 GND

## I2C CP2120
designator IC?, comment CP2120
IC I/O EXPANDER I2C/SPI 8B 20QFN; Manufacturer: Silicon Labs; Manufacturer Part Number: CP2120-GM; Value: CP 2120-GM; Created by: Nils Minor
footprint QFN-20
pins: 1 SCLK, 2 GND, 3 VDD, 4 ~{RST}, 5 GPIO0, 6 GPIO7, 7 GPIO6, 8 GPIO5, 9 GPIO4, 10 GPIO3, 11 GPIO2, 12 GPIO1, 13 EINT, 14 ~{INT}, 15 NC, 16 SCL, 17 SDA, 18 ~{CS}, 19 MOSI, 20 MISO, GND

## I2C INA219
designator IC?, comment INA219BIDR
Zero-Drift, Bi-Directional CURRENT/POWER MONITOR with I2C™ Interface, D0008A; Manufacturer: Texas Instruments; Created by: Nils Minor; Manufacturer Part Number: INA219BIDR
footprint D0008A_L
pins: 1 A1 (in), 2 A0 (in), 3 SDA (io), 4 SCL (in), 5 VS (power), 6 GND (power), 7 VIN- (power), 8 VIN+ (power)

## I2C LM5050-1_1
designator IC?, comment LM5050MK-1/NOPB
Hot Swap-Spannungscontroller Hi Side OR-ing FET Cntlr; Manufacturer: Texas instruments; Manufacturer Part Number: LM5050MK-1/NOPB; Created by: Nils Minor
footprint SOT236
pins: 1 VS, 2 GND, 3 OFF, 4 IN, 5 GATE, 6 OUT

## I2C MCP23009-E/P
designator IC?, comment MCP23009-E/MG
I2C Expander mit 8 GPIOs; Manufacturer: Microchip Technology; Created by: Nils Minor; Manufacturer Part Number: MCP23009-E/MG; Value: MCP 23009-E/MG
footprint QFN-16
pins: 1 VSS, 2 NC, 3 VDD, 4 SCL, 5 SDA, 6 ADDR, 7 ~{RESET}, 8 INT, 9 GPIO0, 10 GPIO1, 11 GPIO2, 12 GPIO3, 13 GPIO4, 14 GPIO5, 15 GPIO6, 16 GPIO7

## I2C P82B715TD,118
designator IC?, comment P82B715TD,118
Signal Buffer, Verstärker I2C BUS EXTENDER; Manufacturer: NXP Semiconductors; Created by: Nils Minor; Manufacturer Part Number: P82B715TD,118; Value: P 82 B 715 TD
footprint SOIC127P600X175-8N (SOIC, 8-Leads, Body 4,90x3,90mm, Pitch 1,27mm, IPC Medium Density)
pins: 1 N.C., 2 Lx, 3 Sx, 4 GND, 5 N.C., 6 Sy, 7 Ly, 8 Vcc

## I2C PCA9517D
designator IC?, comment PCA9517DP,118
Übersetzungsspannungs-Pegel I2C BUS REPEATER; Manufacturer: NXP Semiconductors; Manufacturer Part Number: PCA9517DP,118; Created by: Nils Minor; Value: PCA 9517 D
footprint SO8
pins: 1 VCCA, 2 SCLA, 3 SDAA, 4 GND, 5 EN, 6 SDAB, 7 SCLB, 8 VCCB

## I2C PCA9551BS
designator IC?, comment PCA9551BS,118
PCA9551 Series 5.5 V 25 mA Surface Mount 8-bit I2C-Bus LED Driver - HVQFN-16; Manufacturer: NXP Semiconductors; Manufacturer Part Number: PCA9551BS,118; Created by: Nils Minor
footprint QFN-4X4-16
pins: 1 A2 (in), 2 LED0 (out), 3 LED1 (out), 4 LED2 (out), 5 LED3 (out), 6 GND (power), 7 LED4 (out), 8 LED5 (out), 9 LED6 (out), 10 LED7 (out), 11 ~{RESET} (in), 12 SCL (power), 13 SDA, 14 VDD (power) "VDD 2.3V - 5.5V", 15 A0 (in), 16 A1 (in)

## I2C PCA9615DPJ
designator IC?, comment PCA9615DPJ
Signal Buffers, Repeaters 2-channel multipoint Differential I2C-bus; Manufacturer: NXP Semiconductors; Manufacturer Part Number: PCA9615DPJ; Created by: Nils Minor
footprint TSSOP-10
pins: 1 VDDA, 2 EN, 3 SDA, 4 SCL, 5 GND, 6 DSCL-, 7 DSCL+, 8 DSDA+, 9 DSDA-, 10 VDDB

## I2C PCA9672BS
designator IC?, comment PCA9672BS,118
Remote 8-bit I/O expander for Fm+ I²C-bus with interrupt and reset; SOT758; Manufacturer: NXP Semiconductors; Manufacturer Part Number: PCA9672BS,118; Created by: Nils Minor
footprint QFN-4X4-16
pins: 1 ~{RESET} (in), 2 P0 (out), 3 P1 (out), 4 P2 (out), 5 P3 (out), 6 GND (power), 7 P4 (out), 8 P5 (out), 9 P6 (out), 10 P7 (out), 11 ~{INT} (in), 12 SCL (power), 13 SDA, 14 VDD (power) "VDD 2.3V - 5.5V", 15 A0 (in), 16 A1 (in)

## I2C PCAL6408AHK
designator IC?, comment PCAL6408AHK
I2C-bus I/O expander mit 8 GPIOs, interrupt output; Manufacturer: NXP Semiconductors; Manufacturer Part Number: PCAL6408AHK; Created by: Nils Minor; Value: PCAL 6408 AHK
footprint XQFN40P180X260X50-16N
pins: 1 ~{RESET} (in), 2 IO0 (io), 3 IO1 (io), 4 IO2 (io), 5 IO3 (io), 6 GND (power), 7 IO4 (io), 8 IO5 (io), 9 IO6 (io), 10 IO7 (io), 11 ~{INT} (out), 12 SCL (power), 13 SDA, 14 VDD(P) (power) "VDD 2.3V - 5.5V", 15 VDD(I2C) (power), 16 ADDR (in)

## I2C SHT30-DIS-B
designator IC?, comment SHT30-DIS-B  (value not drawn)
SHT3x Series 5.5 V ±3 %RH 0 to 100% Temperature and Humidity Sensor - DFN-8; Manufacturer: Sensirion; Created by: Nils Minor; Manufacturer Part Number: SHT30-DIS-B
footprint Sensirion_SHT30-DIS-B_0
pins: 1 SDA (io), 2 ADDR (in), 3 ALERT (out), 4 SCL (io), 5 VDD (power), 6 ~{RESET} (in), 7 R, 8 VSS (power), 9 EP (power)

## I2C SI7021-A20-GM1
designator IC?, comment SI7021-A20-GM1
Humidity/Temperature Sensor Digital Serial (I2C) 6-Pin DFN EP Cut Tape; Manufacturer: Silicon Labs; Created by: Nils Minor; Manufacturer Part Number: SI7021-A20-GM1
footprint DFN-6
pins: 1 SDA, 2 GND, 3 NC, 4 NC, 5 VDD, 6 SCL

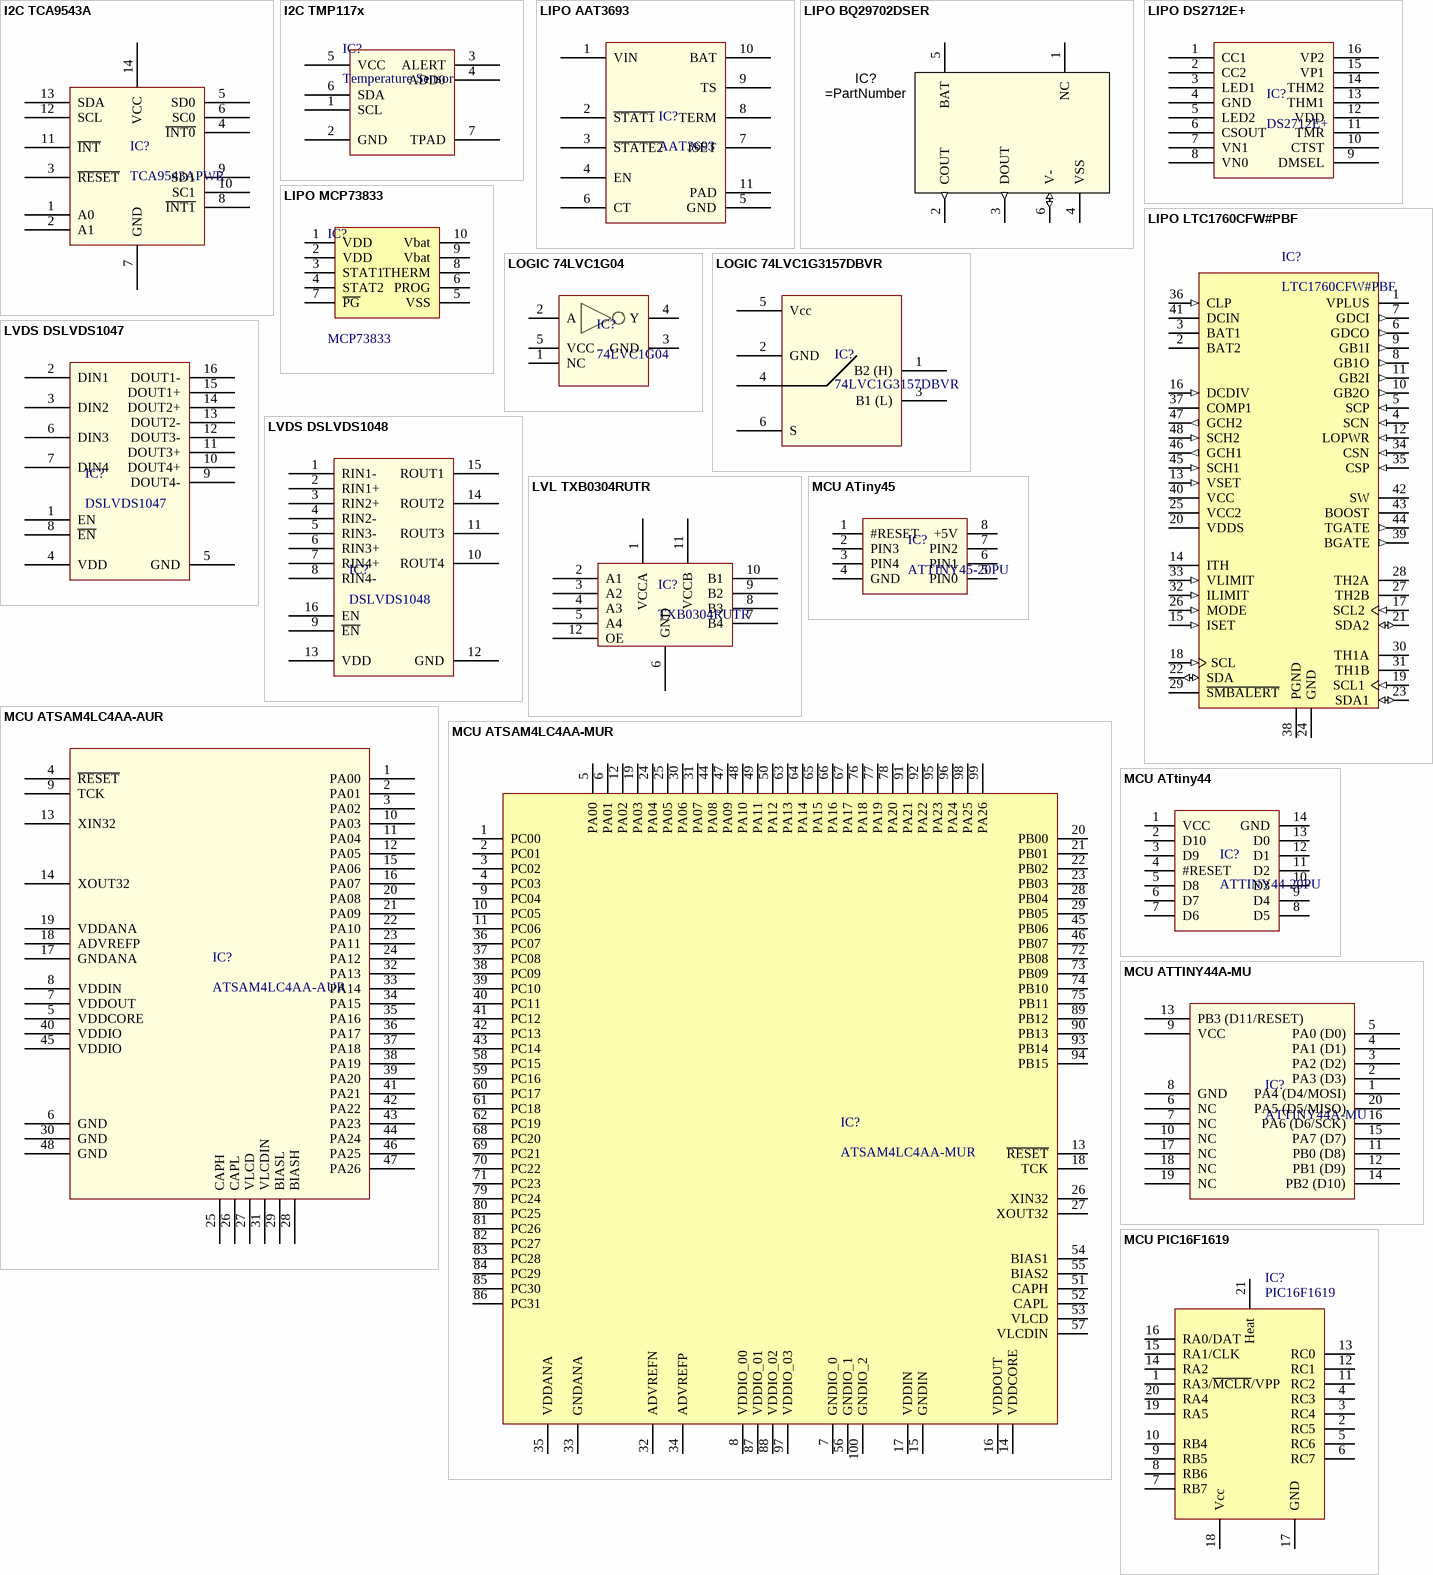
[diagram p3: symbols I2C TCA9543A to MCU PIC16F1619]

## I2C TCA9543A
designator IC?, comment TCA9543APWR
Schalter IC - Verschiedene 2CH I2C BusSwtch w/ Interrpt Logic-Reset; Manufacturer: Texas instruments; Manufacturer Part Number: TCA9543APWR; Created by: Nils Minor
footprint TSSOP14
pins: 1 A0, 2 A1, 3 ~{RESET}, 4 ~{INT0}, 5 SD0, 6 SC0, 7 GND, 8 ~{INT1}, 9 SD1, 10 SC1, 11 ~{INT}, 12 SCL, 13 SDA, 14 VCC

## I2C TMP117x
designator IC?, comment Temperature Sensor
±0.1°C Accurate Digital Temperature Sensor with Integrated NV Memory; Manufacturer: Texas instruments; Manufacturer Part Number: TMP117NAIDRVR; Created by: Nils Minor
footprint DRV0006B (TI recommended land pattern)
pins: 1 SCL, 2 GND, 3 ALERT, 4 ADD0, 5 VCC, 6 SDA, 7 TPAD

## LIPO AAT3693
designator IC?, comment AAT3693
Batterie-Management Lithium-Ion/Polymer Batt Charger 1.6A  1S; Manufacturer: Skyworks Solutions; Manufacturer Part Number: AAT3693IDH-AA-T1; Value: AAT 3693 IDH-AA; Created by: Nils Minor
footprint AAT3693 (Battery Charger)
pins: 1 VIN, 2 ~{STAT1}, 3 ~{STATE2}, 4 EN, 5 GND, 6 CT, 7 ISET, 8 TERM, 9 TS, 10 BAT, 11 PAD

## LIPO BQ29702DSER
designator IC?
Batterie-Management Li-Ion/Li Polymer Battery protect IC; Manufacturer Part Number: BQ29702DSER; Created by: Nils Minor
footprint DSE0006A
pins: 1 NC, 2 COUT (out), 3 DOUT (out), 4 VSS (power), 5 BAT (power), 6 V- (io)
1 alternate drawing of the same symbol

## LIPO DS2712E+
designator IC?, comment DS2712E+
IC, BATTERY CHARGER NICD, NIMH, TSSOP-16; Manufacturer Part Number: DS2712E+; Created by: Nils Minor; Value: DS 2712 E +
footprint TSOP65P640X110-16N (TSOP, 16-Leads, Body 5,75x4,40mm, Pitch 0,65mm, IPC Medium Density)
footprint TSSOP16
pins: 1 CC1, 2 CC2, 3 LED1, 4 GND, 5 LED2, 6 CSOUT, 7 VN1, 8 VN0, 9 DMSEL, 10 CTST, 11 TMR, 12 VDD, 13 THM1, 14 THM2, 15 VP1, 16 VP2

## LIPO LTC1760CFW#PBF
designator IC?, comment LTC1760CFW#PBF
Dual Smart Battery System Manager, 6 to 28 V Vin, 48-pin SOP (FW-48), 0 to 85 degC, Pb-Free; Manufacturer: Analog Devices; Created by: Nils Minor
footprint LT-FW-48_L
pins: 1 VPLUS (power) "Supply. The VPLUS pin is connected via four internal diodes to the DCIN, SCN, BAT1, and BAT2 pins. Bypass this pin with a 0.1uF capacitor and a 1uF capacitor (see Typical Applications for complete circuit).", 2 BAT2 (power) "These two pins are the inputs from the two batteries for power to the LTC1760.", 3 BAT1 (power) "These two pins are the inputs from the two batteries for power to the LTC1760.", 4 SCN (in) "PowerPath Current Sensing Negative Input. This pin should be connected directly to the “bottom” (output side) of the sense resistor, RSC, in series with the three PowerPath switch pairs, for detecting short-circ(See Datasheet)", 5 SCP (in) "PowerPath Current Sensing Positive Input. This pin should be connected directly to the “top” (switch side) of the sense resistor, RSC, in series with the three PowerPath switch pairs, for detecting short-circuit curr(See Datasheet)", 6 GDCO (out) "DCIN Output Switch Gate Drive. Together with GDCI, this pin drives the gate of the P-channel switch in series with the DCIN input switch.", 7 GDCI (out) "DCIN Input Switch Gate Drive. Together with GDCO, this pin drives the gate of the P-channel switch connected to the DCIN input.", 8 GB1O (out) "BAT1 Output Switch Gate Drive. Together with GB1I, this pin drives the gate of the P-channel switch in series with the BAT1 input switch.", 9 GB1I (out) "BAT1 Input Switch Gate Drive. Together with GB1O, this pin drives the gate of the P-channel switch connected to the BAT1 input.", 10 GB2O (out) "BAT2 Output Switch Gate Drive. Together with GB2I, this pin drives the gate of the P-channel switch in series with the BAT2 input switch.", 11 GB2I (out) "BAT2 Input Switch Gate Drive. Together with GB2O, this pin drives the gate of the P-channel switch connected to the BAT2 input.", 12 LOPWR (in) "LOPWR Comparator Input from SCN External Resistor Divider to GND. If the voltage at LOPWR pin is lower than the LOPWR comparator threshold, then system power has failed and power is autonomously switched to a higher voltage (See Datasheet)", 13 VSET (in) "The Tap Point of a Programmable Resistor Divider which Provides Battery Voltage Feedback to the Charger. A capacitor from CSN to VSET and from VSET to GND provide necessary compensation and filtering for the voltage loop.", 14 ITH "The Control Signal of the Inner Loop of the Current Mode PWM. Higher ITH voltage corresponds to higher charging current in normal operation. A capacitor of at least 0.1uF to GND filters out PWM ripple. Typical full-scale (See Datasheet)", 15 ISET (in) "A capacitor from ISET to GND is required to filter higher frequency components from the delta-sigma IDAC.", 16 DCDIV (in) "External DC Source Comparator Input from DCIN External Resistor Divider to GND. If the voltage at DCDIV pin is above the DCDIV comparator threshold, then the AC_PRESENT bit is set and the wall adapter power is considered to (See Datasheet)", 17 SCL2 (in) "SMBus Clock Signal to Smart Battery 2. Do not connect to an external pull-up. The LTC1760 connects this pin to an internal pull-up (IPULLUP) when required.", 18 SCL (in) "SMBus Clock Signal to SMBus Host. Also used to determine flashing rate for stand-alone charge indicators. Requires an external pullup to VDDS (normal SMBus operating mode). Connected to internal SMBus accelerator.", 19 SCL1 (in) "SMBus Clock Signal to Smart Battery 1. Do not connect to an external pull-up. The LTC1760 connects this pin to an internal pull-up (IPULLUP) when required.", 20 VDDS (power) "Power Supply for SMBus Accelerators. Also used in conjunction with MODE pin to modify the LTC1760 operating mode.", 21 SDA2 (io) "SMBus Data Signal to Smart Battery 2. Do not connect to an external pull-up. The LTC1760 connects this pin to an internal pull-up (IPULLUP) when required.", 22 SDA (io) "SMBus Data Signal to SMBus Host. Also used to indicate charging status of Battery 2. Requires an external pullup to VDDS. Connected to internal SMBus accelerator.", 23 SDA1 (io) "SMBus Data Signal to Smart Battery 1. Do not connect to an external pull-up. The LTC1760 connects this pin to an internal pull-up (IPULLUP) when required.", 24 GND (power) "Ground for Low Power Circuitry.", 25 VCC2 (power) "Power Supply is used Primarily to Power Internal Logic Circuitry. Must be connected to VCC.", 26 MODE (in) "Used in conjunction with VDDS to allow SCL, SDA and S\M\B\A\L\E\R\T\ to indicate charging status. May also be used as a hardware charge inhibit.", 27 TH2B "Thermistor Force/Sense Connection to Smart Battery 2 SafetySignal. Connect to Battery 2 thermistor through resistor network shown in “Typical Application.”", 28 TH2A "Thermistor Force/Sense Connection to Smart Battery 2 SafetySignal. Connect to Battery 2 thermistor through resistor network shown in “Typical Application.”", 29 ~{SMBALERT} (oc) "Active Low Interrupt Pin. Signals SMBus Host that there has been a change of status in battery or AC presence. Open drain with weak current source pull-up to VCC2 (with Schottky to allow it to be pulled to 5V externally). (See Datasheet)", 30 TH1A "Thermistor Force/Sense Connection to Smart Battery 1 SafetySignal. Connect to Battery 1 thermistor through resistor network shown in “Typical Application.”", 31 TH1B "Thermistor Force/Sense Connection to Smart Battery 1 SafetySignal. Connect to Battery 1 thermistor through resistor network shown in “Typical Application.”", 32 ILIMIT (in) "An external resistor (RILIMIT) is connected between this pin and GND. The value of the external resistor programs the range and resolution of the programmed charger current.", 33 VLIMIT (in) "An external resistor (RVLIMIT)is connected between this pin and GND. The value of the external resistor programs the range and resolution of the voltage DAC", 34 CSN (in) "Current Amplifier CA1 Input. Connect this to the common output of the charger MUX switches.", 35 CSP (in) "Current Amplifier CA1 Input. This pin and the CSN pin measure the voltage across the charge current sense resistor, RSENSE, to provide the instantaneous current signals required for both peak and average current mode (See Datasheet)", 36 CLP (in) "The Positive Input to the Supply Current Limiting Amplifier CL1. The threshold is set at 100mV above the voltage at the DCIN pin. When used to limit supply current, a filter is needed to filter out the switching noise.", 37 COMP1 "The Compensation Node for the Amplifier CL1. A capacitor is required from this pin to GND if input current amplifier CL1 is used. At input adapter current limit, this node rises to 1V. By forcing COMP1 to GND, amplifier CL1 (See Datasheet)", 38 PGND (power) "High Current Ground Return for BGATE Driver", 39 BGATE (out) "Drives the gate of the bottom external MOSFET of the battery charger buck converter.", 40 VCC (power) "Internal Regulator Output. Bypass this output with at least a 2uF to 4.7uF capacitor. Do not use this regulator output to supply external circuitry except as shown in the application circuit.", 41 DCIN (power) "Supply. External DC power source. A 0.1uF bypass capacitor must be connected to this pin as close as possible. No series resistance is allowed, since the adapter current limit comparator input is also this pin.", 42 SW "PWM Switch Node. Connected to the source of the top external MOSFET. Used as reference for top gate driver", 43 BOOST "Supply to Topside Floating Driver. The bootstrap capacitor is returned to this pin. Voltage swing at this pin is from a diode drop below VCC to (DCIN + VCC).", 44 TGATE (out) "Drives the gate of the top external MOSFET of the battery charger buck converter.", 45 SCH1 (in) "Charger MUX N-Channel Switch Source Returns. These two pins are connected to the sources of the back-to-back switch pairs Q3/Q4 and Q9/Q10 (see Typical Applications). A small pull-down current source returns these nodes to (See Datasheet)", 46 GCH1 (out) "Charger MUX N-Channel Switch Gate Drives. These two pins drive the gates of the back-to-back switch pairs, Q3/Q4 and Q9/Q10, between the charger output and the two batteries (see Typical Applications).", 47 GCH2 (out) "Charger MUX N-Channel Switch Gate Drives. These two pins drive the gates of the back-to-back switch pairs, Q3/Q4 and Q9/Q10, between the charger output and the two batteries (see Typical Applications).", 48 SCH2 (in) "Charger MUX N-Channel Switch Source Returns. These two pins are connected to the sources of the back-to-back switch pairs Q3/Q4 and Q9/Q10 (see Typical Applications). A small pull-down current source returns these nodes to (See Datasheet)"

## LIPO MCP73833
designator IC?, comment MCP73833
1S LiPo charger MSOP-10; Manufacturer: Microchip Technology; Manufacturer Part Number: MCP73833-FCI/UN; Value: MCP 73833-FCI/UN; Created by: Nils Minor
footprint MSOP-10
pins: 1 VDD, 2 VDD, 3 STAT1, 4 STAT2, 5 VSS, 6 PROG, 7 ~{PG}, 8 THERM, 9 Vbat, 10 Vbat

## LOGIC 74LVC1G04
designator IC?, comment 74LVC1G04
Inverter Single Inverter 1.65 to 5.5V 24mA; Manufacturer: NXP Semiconductors; Manufacturer Part Number: 74LVC1G04GW,125; Value: 74 LVC 1 G 04 GW; Created by: Nils Minor
footprint SOT353
pins: 1 NC, 2 A, 3 GND, 4 Y, 5 VCC

## LOGIC 74LVC1G3157DBVR
designator IC?, comment 74LVC1G3157DBVR
Analogschalter IC SPDT Analog Switch; Manufacturer: Texas Instruments (TI); Manufacturer Part Number: 74LVC1G3157DBVR; Created by: Nils Minor; Value: 74 LVC 1 G 3157 DBV
footprint SOT236
pins: 1 B2 (H), 2 GND, 3 B1 (L), 4 A, 5 Vcc, 6 S

## LVDS DSLVDS1047
designator IC?, comment DSLVDS1047
3.3-V LVDS Quad Channel High-Speed Differential Line Driver; Manufacturer: Texas Instruments; Manufacturer Part Number: DSLVDS1047PWR; Created by: Nils Minor
footprint TSSOP16
pins: 1 EN, 2 DIN1, 3 DIN2, 4 VDD, 5 GND, 6 DIN3, 7 DIN4, 8 ~{EN}, 9 DOUT4-, 10 DOUT4+, 11 DOUT3+, 12 DOUT3-, 13 DOUT2-, 14 DOUT2+, 15 DOUT1+, 16 DOUT1-

## LVDS DSLVDS1048
designator IC?, comment DSLVDS1048
3.3-V LVDS Quad Channel High-Speed Differential Line Receiver; Manufacturer: Texas Instruments; Manufacturer Part Number: DSLVDS1048PWR; Created by: Nils Minor
footprint TSSOP16
pins: 1 RIN1-, 2 RIN1+, 3 RIN2+, 4 RIN2-, 5 RIN3-, 6 RIN3+, 7 RIN4+, 8 RIN4-, 9 ~{EN}, 10 ROUT4, 11 ROUT3, 12 GND, 13 VDD, 14 ROUT2, 15 ROUT1, 16 EN

## LVL TXB0304RUTR
designator IC?, comment TXB0304RUTR
Bidirektionaler Levelshifter; Manufacturer: Texas Instruments (TI); Created by: Nils Minor; Manufacturer Part Number: TXB0304RUTR
footprint UQFN12_2X1_7
pins: 1 VCCA, 2 A1, 3 A2, 4 A3, 5 A4, 6 GND, 7 B4, 8 B3, 9 B2, 10 B1, 11 VCCB, 12 OE

## MCU ATiny45
designator IC?, comment ATTINY45-20PU
MCU ATTINY45-20PU; Manufacturer: Atmel; Value: AT TINY 45-20-PU; Manufacturer Part Number: ATTINY45-20PU; Created by: Nils Minor
footprint DIP8
pins: 1 #RESET, 2 PIN3, 3 PIN4, 4 GND, 5 PIN0, 6 PIN1, 7 PIN2, 8 +5V

## MCU ATSAM4LC4AA-AUR
designator IC?, comment ATSAM4LC4AA-AUR
MCU 32BIT 256KB FLASH 48TQFP; Manufacturer: Microchip / Atmel; Manufacturer Part Number: ATSAM4LC4AA-AUR; Created by: Nils Minor; Value: ATSAM 4 LC 4 AA-AU
footprint TSQFP50P900X900X120-48N (TSQFP, 48-Leads, Body 7,00x7,00mm, Pitch 0,50mm, IPC Medium Density)
pins: 1 PA00, 2 PA01, 3 PA02, 4 ~{RESET}, 5 VDDCORE, 6 GND, 7 VDDOUT, 8 VDDIN, 9 TCK, 10 PA03, 11 PA04, 12 PA05, 13 XIN32, 14 XOUT32, 15 PA06, 16 PA07, 17 GNDANA, 18 ADVREFP, 19 VDDANA, 20 PA08, 21 PA09, 22 PA10, 23 PA11, 24 PA12, 25 CAPH, 26 CAPL, 27 VLCD, 28 BIASH, 29 BIASL, 30 GND, 31 VLCDIN, 32 PA13, 33 PA14, 34 PA15, 35 PA16, 36 PA17, 37 PA18, 38 PA19, 39 PA20, 40 VDDIO, 41 PA21, 42 PA22, 43 PA23, 44 PA24, 45 VDDIO, 46 PA25, 47 PA26, 48 GND

## MCU ATSAM4LC4AA-MUR
designator IC?, comment ATSAM4LC4AA-MUR
MCU ARM Cortex M4; Manufacturer: Microchip / Atmel; Manufacturer Part Number: ATSAM4LC4AA-MUR; Created by: Nils Minor; Value: ATSAM 4 LC 4 AA-MU
footprint TQFP-100 (Footprint not found)
pins: 1 PC00, 2 PC01, 3 PC02, 4 PC03, 5 PA00, 6 PA01, 7 GNDIO_0, 8 VDDIO_00, 9 PC04, 10 PC05, 11 PC06, 12 PA02, 13 ~{RESET}, 14 VDDCORE, 15 GNDIN, 16 VDDOUT, 17 VDDIN, 18 TCK, 19 PA03, 20 PB00, 21 PB01, 22 PB02, 23 PB03, 24 PA04, 25 PA05, 26 XIN32, 27 XOUT32, 28 PB04, 29 PB05, 30 PA06, 31 PA07, 32 ADVREFN, 33 GNDANA, 34 ADVREFP, 35 VDDANA, 36 PC07, 37 PC08, 38 PC09, 39 PC10, 40 PC11, 41 PC12, 42 PC13, 43 PC14, 44 PA08, 45 PB06, 46 PB07, 47 PA09, 48 PA10, 49 PA11, 50 PA12, 51 CAPH, 52 CAPL, 53 VLCD, 54 BIAS1, 55 BIAS2, 56 GNDIO_1, 57 VLCDIN, 58 PC15, 59 PC16, 60 PC17, 61 PC18, 62 PC19, 63 PA13, 64 PA14, 65 PA15, 66 PA16, 67 PA17, 68 PC20, 69 PC21, 70 PC22, 71 PC23, 72 PB08, 73 PB09, 74 PB10, 75 PB11, 76 PA18, 77 PA19, 78 PA20, 79 PC24, 80 PC25, 81 PC26, 82 PC27, 83 PC28, 84 PC29, 85 PC30, 86 PC31, 87 VDDIO_01, 88 VDDIO_02, 89 PB12, 90 PB13, 91 PA21, 92 PA22, 93 PB14, 94 PB15, 95 PA23, 96 PA24, 97 VDDIO_03, 98 PA25, 99 PA26, 100 GNDIO_2

## MCU ATtiny44
designator IC?, comment ATTINY44-20PU
MCU 8BIT 4KB FLASH 14DIP; Manufacturer: Atmel; Value: AT TINY 44-20-PU; Manufacturer Part Number: ATTINY44-20PU; Created by: Nils Minor
footprint DIP14
pins: 1 VCC, 2 D10, 3 D9, 4 #RESET, 5 D8, 6 D7, 7 D6, 8 D5, 9 D4, 10 D3, 11 D2, 12 D1, 13 D0, 14 GND

## MCU ATTINY44A-MU
designator IC?, comment ATTINY44A-MU
MCU 8BIT 4KB FLASH 20QFN; Manufacturer: Atmel; Manufacturer Part Number: ATTINY44A-MU; Created by: Nils Minor; Value: AT TINY 44 A-MU
footprint QFN50P400X400X75_HS-21N (QFN, 20-Leads, Body 4,00x4,00mm, Pitch 0,50mm, Thermal Pad 2,58x2,58mm, IPC Medium Density)
pins: 1 PA4 (D4/MOSI), 2 PA3 (D3), 3 PA2 (D2), 4 PA1 (D1), 5 PA0 (D0), 6 NC, 7 NC, 8 GND, 9 VCC, 10 NC, 11 PB0 (D8), 12 PB1 (D9), 13 PB3 (D11/RESET), 14 PB2 (D10), 15 PA7 (D7), 16 PA6 (D6/SCK), 17 NC, 18 NC, 19 NC, 20 PA5 (D5/MISO)

## MCU PIC16F1619
designator IC?, comment PIC16F1619
MCU 8-Bit Mikrocontroller - MCU 8bit MCU 20 SSOP 14KB Flash, 1K RAM; Manufacturer: Microchip Technology; Manufacturer Part Number: PIC16F1619-I/ML; Value: PIC 16 F 1619-I/ML; Created by: Nils Minor
footprint QFN50P400X400X80-20N (QFN, 20-Leads, Body 4,0x4,0mm (max), Pitch 0,50mm, IPC Medium Density)
pins: 1 RA3/~{MCLR}/VPP, 2 RC5, 3 RC4, 4 RC3, 5 RC6, 6 RC7, 7 RB7, 8 RB6, 9 RB5, 10 RB4, 11 RC2, 12 RC1, 13 RC0, 14 RA2, 15 RA1/CLK, 16 RA0/DAT, 17 GND, 18 Vcc, 19 RA5, 20 RA4, 21 Heat

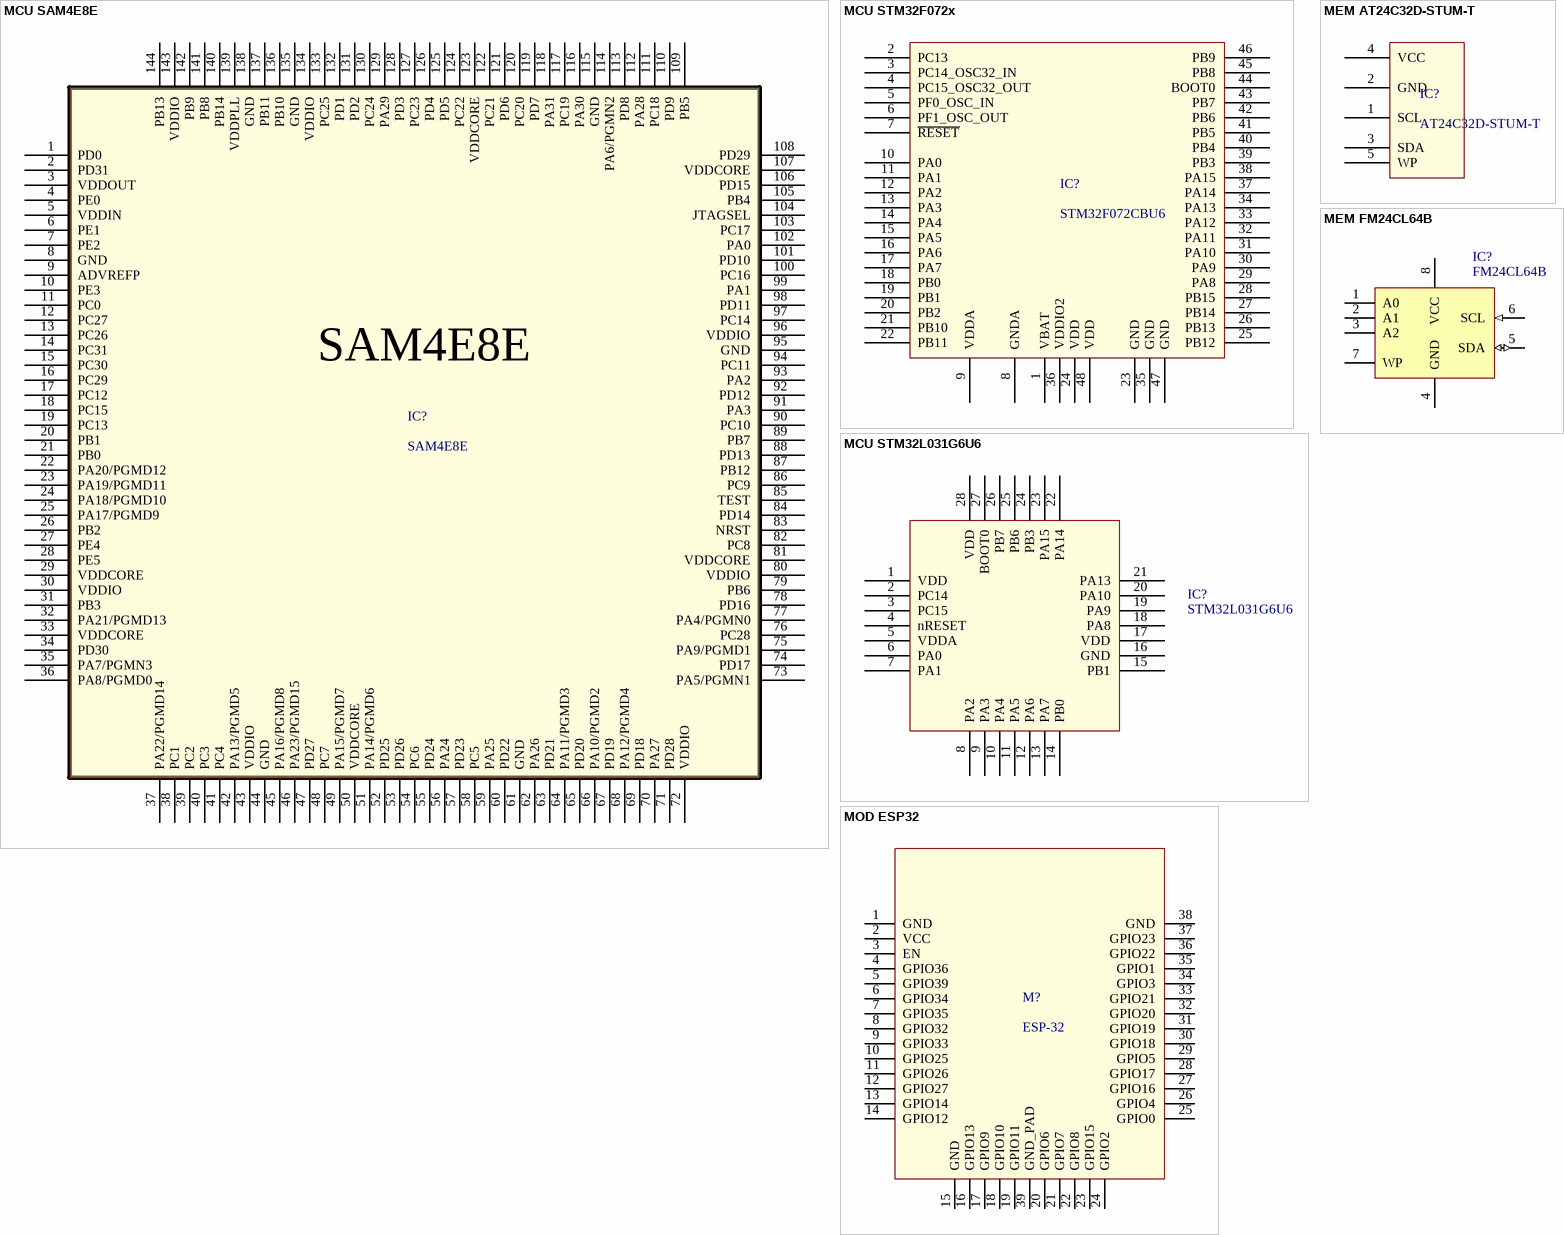
[diagram p4: symbols MCU SAM4E8E to MOD ESP32]

## MCU SAM4E8E
designator IC?, comment SAM4E8E
MCU 32-bit SAM4E ARM Cortex M4 RISC 512KB Flash 1.2V/3.3V 144-Pin LQFP Tray; Manufacturer: Atmel; Manufacturer Part Number: ATSAM4E8EA-AU; Value: AT SAM 4 E 8 EA-AU; Created by: Nils Minor
footprint QFP127P600-8N
pins: 1 PD0, 2 PD31, 3 VDDOUT, 4 PE0, 5 VDDIN, 6 PE1, 7 PE2, 8 GND, 9 ADVREFP, 10 PE3, 11 PC0, 12 PC27, 13 PC26, 14 PC31, 15 PC30, 16 PC29, 17 PC12, 18 PC15, 19 PC13, 20 PB1, 21 PB0, 22 PA20/PGMD12, 23 PA19/PGMD11, 24 PA18/PGMD10, 25 PA17/PGMD9, 26 PB2, 27 PE4, 28 PE5, 29 VDDCORE, 30 VDDIO, 31 PB3, 32 PA21/PGMD13, 33 VDDCORE, 34 PD30, 35 PA7/PGMN3, 36 PA8/PGMD0, 37 PA22/PGMD14, 38 PC1, 39 PC2, 40 PC3, 41 PC4, 42 PA13/PGMD5, 43 VDDIO, 44 GND, 45 PA16/PGMD8, 46 PA23/PGMD15, 47 PD27, 48 PC7, 49 PA15/PGMD7, 50 VDDCORE, 51 PA14/PGMD6, 52 PD25, 53 PD26, 54 PC6, 55 PD24, 56 PA24, 57 PD23, 58 PC5, 59 PA25, 60 PD22, 61 GND, 62 PA26, 63 PD21, 64 PA11/PGMD3, 65 PD20, 66 PA10/PGMD2, 67 PD19, 68 PA12/PGMD4, 69 PD18, 70 PA27, 71 PD28, 72 VDDIO, 73 PA5/PGMN1, 74 PD17, 75 PA9/PGMD1, 76 PC28, 77 PA4/PGMN0, 78 PD16, 79 PB6, 80 VDDIO, 81 VDDCORE, 82 PC8, 83 NRST, 84 PD14, 85 TEST, 86 PC9, 87 PB12, 88 PD13, 89 PB7, 90 PC10, 91 PA3, 92 PD12, 93 PA2, 94 PC11, 95 GND, 96 VDDIO, 97 PC14, 98 PD11, 99 PA1, 100 PC16, 101 PD10, 102 PA0, 103 PC17, 104 JTAGSEL, 105 PB4, 106 PD15, 107 VDDCORE, 108 PD29, 109 PB5, 110 PD9, 111 PC18, 112 PA28, 113 PD8, 114 PA6/PGMN2, 115 GND, 116 PA30, 117 PC19, 118 PA31, 119 PD7, 120 PC20, 121 PD6, 122 PC21, 123 VDDCORE, 124 PC22, 125 PD5, 126 PD4, 127 PC23, 128 PD3, 129 PA29, 130 PC24, 131 PD2, 132 PD1, 133 PC25, 134 VDDIO, 135 GND, 136 PB10, 137 PB11, 138 GND, 139 VDDPLL, 140 PB14, 141 PB8, 142 PB9, 143 VDDIO, 144 PB13